# Altium schematic symbol library SWARMUS_LIB.SchLib: 181 symbols (part 2 of 4)
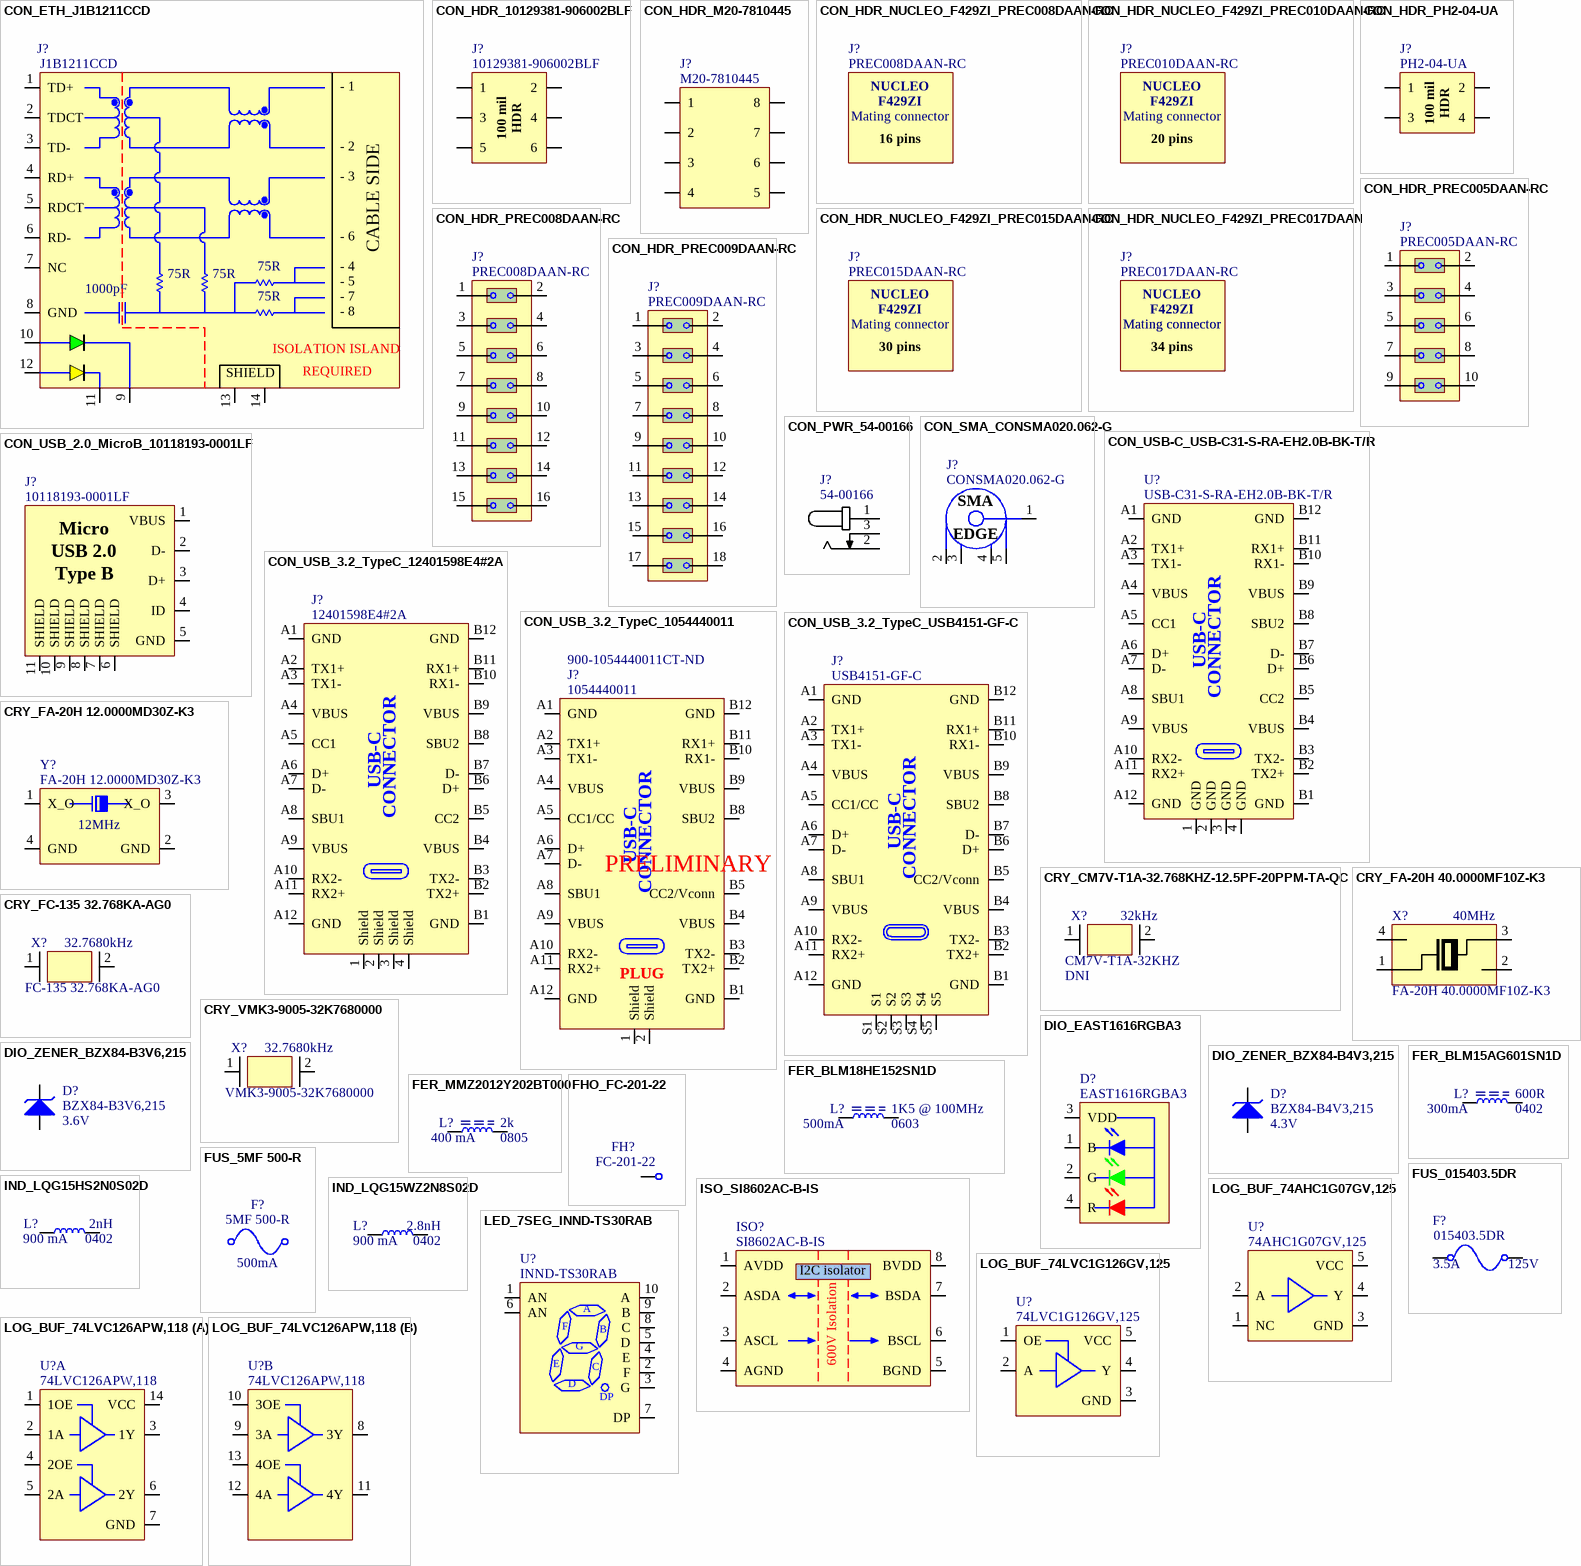
[diagram p7: symbols CON_ETH_J1B1211CCD to LOG_BUF_74LVC126APW,118]

## CON_HDR_NUCLEO_F429ZI_PREC010DAAN-RC
designator J?, comment PREC010DAAN-RC
CON - Header 20 positions 2x10  0.100" - TH; Manufacturer #1: Sullins Connector Solutions; Current Rating: 3A; GRAMS Lib Spec: 2.8; Magnetic Material: Unknown; Polarized: No; Voltage Rating: 1000VAC; Assembly Type: TH; CreatedBy/Date: Louis-Daniel Gaulin / 21-10-2020; HelpURL: https://drawings-pdf.s3.amazonaws.com/11636.pdf; Manufacturer #2: *; Package: TH; Part Number #2: *; Power Max: *; Supplier 1: Digi-Key; Supplier Part Number 1: S2012EC-10-ND; Temperature: -55°C ~ 105°C; Tolerance: *; Value: *; Part Number #1: PREC010DAAN-RC; Cryo: UNKNOWN
footprint CON_HDR_NUCLEO_F429ZI_C010DAAN-RC
text: NUCLEO; F429ZI; Mating connector; 20 pins

## CON_HDR_NUCLEO_F429ZI_PREC015DAAN-RC
designator J?, comment PREC015DAAN-RC
CON - Header 30 positions 2x15  0.100" - TH; Manufacturer #1: Sullins Connector Solutions; Current Rating: 3A; GRAMS Lib Spec: 2.8; Magnetic Material: Unknown; Polarized: No; Voltage Rating: 1000VAC; Assembly Type: TH; CreatedBy/Date: Louis-Daniel Gaulin / 21-10-2020; HelpURL: https://drawings-pdf.s3.amazonaws.com/11636.pdf; Manufacturer #2: *; Package: TH; Part Number #2: *; Power Max: *; Supplier 1: Digi-Key; Supplier Part Number 1: S2012EC-15-ND; Temperature: -55°C ~ 105°C; Tolerance: *; Value: *; Part Number #1: PREC015DAAN-RC; Cryo: UNKNOWN
footprint CON_HDR_NUCLEO_F429ZI_C015DAAN-RC
text: NUCLEO; F429ZI; Mating connector; 30 pins

## CON_HDR_NUCLEO_F429ZI_PREC017DAAN-RC
designator J?, comment PREC017DAAN-RC
CON - Header 34 positions 2x17  0.100" - TH; Manufacturer #1: Sullins Connector Solutions; Current Rating: 3A; GRAMS Lib Spec: 2.8; Magnetic Material: Unknown; Polarized: No; Voltage Rating: 1000VAC; Assembly Type: TH; CreatedBy/Date: Louis-Daniel Gaulin / 21-10-2020; HelpURL: https://drawings-pdf.s3.amazonaws.com/11636.pdf; Manufacturer #2: *; Package: TH; Part Number #2: *; Power Max: *; Supplier 1: Digi-Key; Supplier Part Number 1: S2012EC-17-ND; Temperature: -55°C ~ 105°C; Tolerance: *; Value: *; Part Number #1: PREC017DAAN-RC; Cryo: UNKNOWN
footprint CON_HDR_NUCLEO_F429ZI_C017DAAN-RC
text: NUCLEO; F429ZI; Mating connector; 34 pins

## CON_HDR_PH2-04-UA
designator J?, comment PH2-04-UA
CON - Header 4 positions 2x2  0.100" - TH; Manufacturer #1: Adam Tech; Current Rating: 3A; GRAMS Lib Spec: 2.8; Magnetic Material: Unknown; Polarized: Yes; Voltage Rating: 250 VAC; Assembly Type: TH; CreatedBy/Date: Louis-Daniel Gaulin / 30-07-2020; HelpURL: http://www.adam-tech.com/downloader.php?p=PH2-XX-UA.pdf; Manufacturer #2: *; Package: TH; Part Number #2: *; Power Max: *; Supplier 1: Digi-Key; Supplier Part Number 1: 2057-PH2-04-UA-ND; Temperature: -55°C ~ 105°C; Tolerance: *; Value: *; VerifiedBy: Philippe Arsenault/2020-11-06; Part Number #1: PH2-04-UA; Cryo: UNKNOWN
footprint CON_HDR_PH2-04-UA
pins: 1, 2, 3, 4
text: 100 mil; HDR

## CON_HDR_PREC005DAAN-RC
designator J?, comment PREC005DAAN-RC
CON - Connector Header Through Hole 10 position 0.100" (2.54mm); Manufacturer #1: Sullins Connector Solutions; Value: 5x2; Current Rating: 3A; GRAMS Lib Spec: 2.8; Magnetic Material: Unknown; Polarized: Yes; Tolerance: *; Voltage Rating: *; Power Max: *; HelpURL: https://drawings-pdf.s3.amazonaws.com/11636.pdf; VerifiedBy: Louis-Daniel Gaulin / 08-04-2021; Temperature: -40°C ~ 105°C; Package: TH 2x5; Manufacturer #2: *; Assembly Type: TH; Part Number #2: *; Part Number #1: PREC005DAAN-RC; CreatedBy/Date: Philippe Arsenault/2021-03-27; Supplier 1: Digi-Key; Supplier Part Number 1: S2012EC-05-ND
footprint CON_HDR_PREC005DAAN-RC (18 pin header 100 mils)
pins: 1, 2, 3, 4, 5, 6, 7, 8, 9, 10

## CON_HDR_PREC008DAAN-RC
designator J?, comment PREC008DAAN-RC
CON - Connector Header Through Hole 16 position 0.100" (2.54mm); Manufacturer #1: Sullins Connector Solutions; Value: 8x2; Current Rating: 3A; GRAMS Lib Spec: 2.7; Magnetic Material: Unknown; Polarized: Yes; Tolerance: *; Voltage Rating: *; Power Max: *; HelpURL: https://drawings-pdf.s3.amazonaws.com/11636.pdf; VerifiedBy: Philippe Arsenault/2021-03-25; Temperature: -40°C ~ 105°C; Package: TH 2x8; Manufacturer #2: *; Assembly Type: TH; Part Number #2: *; Part Number #1: PREC008DAAN-RC; CreatedBy/Date: Hubert Dube -  16/03/2021; Supplier 1: Digi-Key; Supplier Part Number 1: S2012EC-08-ND
footprint CON_HDR_PREC008DAAN-RC
pins: 1, 2, 3, 4, 5, 6, 7, 8, 9, 10, 11, 12, 13, 14, 15, 16

## CON_HDR_PREC009DAAN-RC
designator J?, comment PREC009DAAN-RC
CON - Connector Header Through Hole 18 position 0.100" (2.54mm); Manufacturer #1: Sullins Connector Solutions; Value: 9x2; Current Rating: 3A; GRAMS Lib Spec: 2.8; Magnetic Material: Unknown; Polarized: Yes; Tolerance: *; Voltage Rating: *; Power Max: *; HelpURL: https://drawings-pdf.s3.amazonaws.com/11636.pdf; VerifiedBy: Philippe Arsenault/2021-04-21; Temperature: -40°C ~ 105°C; Package: TH 2x9; Manufacturer #2: *; Assembly Type: TH; Part Number #2: *; Part Number #1: PREC009DAAN-RC; CreatedBy/Date: Louis-Daniel Gaulin / 20-04-2021; Supplier 1: Digi-Key; Supplier Part Number 1: S2012EC-09-ND
footprint CON_HDR_PREC009DAAN-RC
pins: 1, 2, 3, 4, 5, 6, 7, 8, 9, 10, 11, 12, 13, 14, 15, 16, 17, 18

## CON_PWR_54-00166
designator J?, comment 54-00166
CON -  PWR JACK 231X5.5MM SOLDER RIGHT ANGLE - TH; Manufacturer #1: Tensility International Corp; Value: 2.10mm ID (0.083"), 5.50mm OD (0.217"); Voltage Rating: 48V; Current Rating: 6A; GRAMS Lib Spec: 2.8; Magnetic Material: Unknown; Polarized: Yes; Tolerance: -; Power Max: *; HelpURL: https://tensility.s3.amazonaws.com/uploads/pdffiles/54-00166.pdf?X-Amz-Expires=600&X-Amz-Date=20210524T010042Z&X-Amz-Algorithm=AWS4-HMAC-SHA256&X-Amz-Credential=AKIAIS2S4WRDQDSWDRZQ%2F20210524%2Fus-west-2%2Fs3%2Faws4_request&X-Amz-SignedHeaders=host&X-Amz-Signature=421a14a98a6cb1d4ecc5694c8922295a9a1148252ef58783507cb2127da09a73; CreatedBy/Date: L-D Gaulin / 23-05-2021; VerifiedBy: Philippe Arsenault/24-05-2021; Temperature: -20°C ~ 70°C; Package: TH; Manufacturer #2: -; Note: -; Assembly Type: TH; Part Number #2: -; Part Number #1: 54-00166; Supplier 1: Digi-Key; Supplier Part Number 1: 839-54-00166-ND; Cryo: UNKNOWN
footprint CON_PWR_PJ-002A
pins: 1, 2, 3

## CON_SMA_CONSMA020.062-G
designator J?, comment CONSMA020.062-G
CON_SMA FML EDGE MNT 0.062" PCB - 5-SMD; Manufacturer #1: Linx Technologies Inc.; GRAMS Lib Spec: 2.8; Magnetic Material: Unknown; Polarized: Yes; Value: 50 ohm; Voltage Rating: 500V; Assembly Type: SMD; CreatedBy/Date: Philippe Arsenault/2021-03-26; Current Rating: -; Part Number #1: CONSMA020.062-G; Part Number #2: TBD; Package: 5-SMD - EDGE; Power Max: -; Tolerance: -; HelpURL: https://linxtechnologies.com/wp/wp-content/uploads/consma020.062-g-ds.pdf; Temperature: -65°C ~ 165°C; Cryo: UNKNOWN; Supplier 1: Digi-Key; Supplier Part Number 1: 343-CONSMA020.062-G-ND
footprint CON_SMA_CONSMA020.062-G (ADGE SMA femal connector)
pins: 1, 2, 3, 4, 5
text: SMA; EDGE

## CON_USB-C_USB-C31-S-RA-EH2.0B-BK-T/R
designator U?, comment USB-C31-S-RA-EH2.0B-BK-T/R
CON_USB-C- USB 3.2 Gen 2 (USB 3.1 Gen 2, Superspeed + (USB 3.1)) Receptacle Connector 24 Position Board Edge, Cutout; Surface Mount; Through Hole, Right Angle; Manufacturer #1: Adam Tech; Value: 24pins; Voltage Rating: 100 VAC RMS; Current Rating: 0.25A, 1.25A, 5A / (I/O, VConn(SBU) 5Afor all Vbus); GRAMS Lib Spec: 2.7; Magnetic Material: Unknown; Polarized: YES; HelpURL: https://adam-tech.com/downloader.php?p=USB-C31-S-RA-EH2.0B-BK-TR.pdf; CreatedBy/Date: Philippe Arsenault/2021-03-30; VerifiedBy: Hubert Dube/02/09/2021; Temperature: -40°C ~ 85°C; Assembly Type: TH and SMT; Part Number #1: USB-C31-S-RA-EH2.0B-BK-T/R; Supplier 1: Digi-Key; Supplier Part Number 1: 2057-USB-C31-S-RA-EH2.0B-BK-T/RCT-ND
footprint CON_USB-C_USB-C31-S-RA-EH2.0B-BK-T/R (USB-C 24 pins)
pins: 1 GND, 2 GND, 3 GND, 4 GND, A1 GND, A2 TX1+, A3 TX1-, A4 VBUS, A5 CC1, A6 D+, A7 D-, A8 SBU1, A9 VBUS, A10 RX2-, A11 RX2+, A12 GND, B1 GND, B2 TX2+, B3 TX2-, B4 VBUS, B5 CC2, B6 D+, B7 D-, B8 SBU2, B9 VBUS, B10 RX1-, B11 RX1+, B12 GND
text: USB-C; CONNECTOR

## CON_USB_2.0_MicroB_10118193-0001LF
designator J?, comment 10118193-0001LF
CON - USB MICRO B RECPT SMT R/A - 4PIN; Manufacturer #1: Amphenol ICC (FCI); Value: USB - Micro B; Voltage Rating: 100VAC; Current Rating: 1.8A/contact; GRAMS Lib Spec: 2.8; Magnetic Material: YES; Cryo: UNKNOWN; Tolerance: *; Power Max: *; HelpURL: https://www.amphenol-icc.com/media/wysiwyg/files/drawing/10118193.pdf?__cf_chl_jschl_tk__=6d5b316db0ca5d2788caa1989b39659b9ea3c0ed-1622505795-0-AaRt1DRyGvMNSBAk-qveCbchLKWQVIAmMiw21edGgytfrVBaCdBHD0R7JP7UqzERtsgLGU8HnLnb9NYw-qq_cWljJZMkMwMtVSFHzRWJlLGbudgxgloryBeAgmSCpzkO2dZRjU3EQamWhvcULwajMV3fUiPho2i-h9AvBD-JqRwzr_N72ynCGWIjWcVHfmsFPyxAQrRMF2zITy4XZMyiz2AisoEE3UXmLsQg-7dODwqIJ2w3QedNraoyztkugiCMWxiG_3uBZp4Hnkmn46Uonr3vdxMQME4_KheuMgFPp_P5DOBRGOjNcuKVWDKaTIxtzSjm-Vi4YySbwfngYOahHgBwxZ2C5SyJl7R0K4LSNt2ojAQ_mNseQmjUzt2NlEQzWcUY5VyszMT4_2moKBiyVJV5rMzbQJeY5pbhSVMFh_uqO5OAY_NpBW4J5fNDt7yaBnEN83RzXmHLdXapuDszcAuGnTT7dhkWobY6IAAHQ-dVnvz40dzhWNjP-wfi7Oy6mg; CreatedBy/Date: Louis-Daniel Gaulin / 31-05-2021; VerifiedBy: Philippe Arsenault/2021-06-07; Temperature: -30°C ~ 80°C; Package: 5-SMD; Manufacturer #2: *; Note: *; Assembly Type: SMD; Part Number #2: *; Part Number #1: 10118193-0001LF; Polarized: YES; Supplier 1: Digi-Key; Supplier Part Number 1: 609-4616-1-ND
footprint CON_USB_10118194-0001LF (CONN USB MICRO B RECPT SMT R/A)
pins: 1 VBUS, 2 D-, 3 D+, 4 ID, 5 GND, 6 SHIELD, 7 SHIELD, 8 SHIELD, 9 SHIELD, 10 SHIELD, 11 SHIELD
text: Micro; USB 2.0; Type B

## CON_USB_3.2_TypeC_12401598E4#2A
designator J?, comment 12401598E4#2A
CON_USB - USB 3.2 Gen 2 (USB 3.1 Gen 2, Superspeed + (USB 3.1)) 24 pos Receptacle - R/A; Manufacturer #1: Amphenol ICC (Commercial Products); Value: USB 3.2 Type C; Current Rating: 5A total; GRAMS Lib Spec: 2.8; Magnetic Material: Unknown; Polarized: Yes; Voltage Rating: -; Power Max: -; HelpURL: https://www.amphenol-icc.com/media/wysiwyg/files/drawing/12401598xxx2a.pdf; CreatedBy/Date: Louis-Daniel Gaulin / 07-04-2021; VerifiedBy: Philippe Arsenault/2021-04-08; Temperature: max 105°C; Package: SMD + TH R/A; Assembly Type: SMD + TH; Part Number #1: 12401598E4#2A; Supplier 1: Digi-Key; Supplier Part Number 1: 12401598E4#2ACT-ND
footprint CON_USB_3.2_TypeC_12401598E4#2A
pins: 1 Shield, 2 Shield, 3 Shield, 4 Shield, A1 GND, A2 TX1+, A3 TX1-, A4 VBUS, A5 CC1, A6 D+, A7 D-, A8 SBU1, A9 VBUS, A10 RX2-, A11 RX2+, A12 GND, B1 GND, B2 TX2+, B3 TX2-, B4 VBUS, B5 CC2, B6 D+, B7 D-, B8 SBU2, B9 VBUS, B10 RX1-, B11 RX1+, B12 GND
text: USB-C; CONNECTOR

## CON_USB_3.2_TypeC_1054440011
designator J?, comment 1054440011  Supplier Part Number 1: 900-1054440011CT-ND
CON_USB -USB-C (USB TYPE-C) USB 3.2 Gen 2 (USB 3.1 Gen 2, Superspeed + (USB 3.1)) Plug Connector 24 Position Board Edge, Straddle Mount; Manufacturer #1: Molex; Value: USB 3.2 Type C; Voltage Rating: 30VAC/DC; Current Rating: 5A total; GRAMS Lib Spec: 2.8; Magnetic Material: Unknown; Polarized: Yes; Power Max: -; HelpURL: https://www.molex.com/pdm_docs/sd/1054440011_sd.pdf; CreatedBy/Date: Philippe Arsenault/2021-08-17; Temperature: -30°C ~ 85°C; Package: SMD; Assembly Type: SMD; Part Number #1: 1054440011; Supplier 1: Digi-Key
footprint CON_USB_3.2_TypeC_1054440011 (USB-C plug, sandwhich 0.8mm board)
pins: 1 Shield, 2 Shield, A1 GND, A2 TX1+, A3 TX1-, A4 VBUS, A5 CC1/CC, A6 D+, A7 D-, A8 SBU1, A9 VBUS, A10 RX2-, A11 RX2+, A12 GND, B1 GND, B2 TX2+, B3 TX2-, B4 VBUS, B5 CC2/Vconn, B8 SBU2, B9 VBUS, B10 RX1-, B11 RX1+, B12 GND
text: USB-C; PRELIMINARY; CONNECTOR; PLUG

## CON_USB_3.2_TypeC_USB4151-GF-C
designator J?, comment USB4151-GF-C
CON - USB-C (USB TYPE-C) USB 3.2 Gen 1 (USB 3.1 Gen 1, Superspeed (USB 3.0)) Plug Connector 24 Position Surface Mount, Through Hole; Manufacturer #1: GCT; Value: USB 3.2 Type C; Voltage Rating: 20VDC; Current Rating: 5A total; GRAMS Lib Spec: 2.8; Note: Vertical; Magnetic Material: Unknown; Polarized: Yes; Power Max: -; HelpURL: https://gct.co/connector/usb4151; CreatedBy/Date: Philippe Arsenault/2021-08-17; VerifiedBy: Hubert Dube/2021-09-02; Temperature: -40°C ~ 85°C; Package: SMD/TH; Assembly Type: SMD/TH; Part Number #1: USB4151-GF-C; Supplier 1: Digi-Key; Supplier Part Number 1: 2073-USB4151-GF-CCT-ND
footprint CON_USB-C_USB4151-GF-C (USB-C plug Vertical)
pins: A1 GND, A2 TX1+, A3 TX1-, A4 VBUS, A5 CC1/CC, A6 D+, A7 D-, A8 SBU1, A9 VBUS, A10 RX2-, A11 RX2+, A12 GND, B1 GND, B2 TX2+, B3 TX2-, B4 VBUS, B5 CC2/Vconn, B6 D+, B7 D-, B8 SBU2, B9 VBUS, B10 RX1-, B11 RX1+, B12 GND, S1, S2, S3, S4, S5
text: USB-C; CONNECTOR

## CRY_CM7V-T1A-32.768KHZ-12.5PF-20PPM-TA-QC
designator X?, comment CM7V-T1A-32KHZ  value 32kHz  Assembly Note: DNI
CRY - 32.768KHZ tol:20ppm 12.5PF - 2-SMD; Manufacturer #1: Micro Crystal AG; Part Number #1: CM7V-T1A-32.768KHZ-12.5PF-20PPM-TA-QC; Magnetic Material: Unknown; Polarized: No; GRAMS Lib Spec: 2.8; Tolerance: ±20ppm; Assembly Type: SMD; Current Rating: *; Manufacturer #2: *; Note: *; Part Number #2: *; Package: 2-SMD, No Lead; Power Max: *; Voltage rating: *; Temperature: -40°C ~ 85°C; HelpURL: https://www.microcrystal.com/fileadmin/Media/Products/32kHz/Datasheet/CM7V-T1A.pdf; CreatedBy/Date: Hubert Dube - 21/07/20; VerifiedBy: Louis-Daniel Gaulin - 09/11/2020; Cryo: UNKNOWN; Supplier 1: Digi-Key; Supplier Part Number 1: 2195-CM7V-T1A-32.768KHZ-12.5PF-20PPM-TA-QCCT-ND
footprint CRY_CM7V-T1A-32.768KHZ-12.5PF-20PPM-TA-QC (CRY - 32.768KHZ tol:20ppm 12.5PF - 2-SMD)
pins: 1 In/Out, 2 Out/In

## CRY_FA-20H 12.0000MD30Z-K3
designator Y?, comment FA-20H 12.0000MD30Z-K3
CRY - 12MHz ±30ppm Crystal 10pF 150 Ohms 4-SMD, No Lead; Manufacturer #1: EPSON; Voltage Rating: 1.8V ~ 3.3V; GRAMS Lib Spec: 2.8; Magnetic Material: Unknown; Polarized: Yes; Value: 12MHz; Tolerance: ±30ppm; Current Rating: *; Power Max: *; HelpURL: https://support.epson.biz/td/api/doc_check.php?dl=brief_FA-20H&lang=en; CreatedBy/Date: Hubert Dube - 13/03/2021; VerifiedBy: Philippe Arsenault - 2021/03/16; Temperature: -40°C ~ 85°C; Package: 4-SMD, No Lead; Manufacturer #2: *; Note: *; Assembly Type: SMD; Part Number #2: *; Part Number #1: FA-20H 12.0000MD30Z-K3; Cryo: UNKNOWN; Supplier 1: Digi-Key; Supplier Part Number 1: SER4113CT-ND
footprint CRY_FA-20H (CRY - FA-20H 4-SMD)
pins: 1 X_O, 2 GND, 3 X_O, 4 GND

## CRY_FA-20H 40.0000MF10Z-K3
designator X?, comment FA-20H 40.0000MF10Z-K3  value 40MHz
CRY - 40MKHZ 10ppm 10PF - 4-SMD; Manufacturer #1: EPSON; Magnetic Material: Unknown; Polarized: No; GRAMS Lib Spec: 2.8; Assembly Type: SMD; Current Rating: *; Manufacturer #2: *; Note: *; Part Number #1: FA-20H 40.0000MF10Z-K3; Part Number #2: *; Package: 4 - SMD, No Lead; Power Max: *; Voltage rating: *; Temperature: -20°C ~ 75°C; HelpURL: https://support.epson.biz/td/api/doc_check.php?dl=brief_FA-20H&lang=en; CreatedBy/Date: Hubert Dube - 21/07/20; Tolerance: ±10ppm; VerifiedBy: Louis-Daniel Gaulin - 09/11/2020; Cryo: UNKNOWN; Supplier 1: Digi-Key; Supplier Part Number 1: SER4045CT-ND
footprint CRY_FA-20H 40.0000MF10Z-K3 (CRY - 40MKHZ 10ppm 10PF - 4-SMD)
pins: 1, 2, 3, 4

## CRY_FC-135 32.768KA-AG0
designator X?, comment FC-135 32.768KA-AG0  value 32.7680kHz
CRY - 32.768KHZ tol:20ppm 7PF - 2-SMD; Manufacturer #1: Seiko Epson Corporation; Magnetic Material: Unknown; Polarized: No; GRAMS Lib Spec: 2.8c; Tolerance: ±20ppm; Assembly Type: SMD; Current Rating: *; Manufacturer #2: *; Note: *; Part Number #1: FC-135 32.768KA-AG0; Part Number #2: *; Package: 2-SMD, No Lead; Power Max: *; Voltage rating: *; Temperature: -40°C ~ 85°C; HelpURL: https://support.epson.biz/td/api/doc_check.php?dl=brief_FC-135&lang=en; CreatedBy/Date: Louis-Daniel Gaulin / 08-04-2021; VerifiedBy: Philippe Arsenault/2021-04-10; Cryo: UNKNOWN; Supplier 1: Digi-Key; Supplier Part Number 1: SER4089CT-ND
footprint CRY_FC-135 32.768KA-AG0 (CRY - 32.768KHZ tol:20ppm 12.5PF - 2-SMD)
pins: 1 In/Out, 2 Out/In

## CRY_VMK3-9005-32K7680000
designator X?, comment VMK3-9005-32K7680000  value 32.7680kHz
CRY - 32.768KHZ tol:20ppm  - 2-SMD; Manufacturer #1: Microchip Technology; Magnetic Material: Unknown; Note: The capacitance is unclear - migthcause problems; Polarized: No; GRAMS Lib Spec: 2.8c; Tolerance: ±20ppm; Assembly Type: SMD; Current Rating: *; Manufacturer #2: *; Part Number #1: VMK3-9005-32K7680000; Part Number #2: *; Package: 2-SMD, No Lead; Power Max: *; Voltage rating: *; Temperature: -40°C ~ 85°C; HelpURL: https://www.vectron.com/products/crystals/VMK3_VMK4.pdf; CreatedBy/Date: Louis-Daniel Gaulin / 08-04-2021; VerifiedBy: Philippe Arsenault/2021-04-15; Cryo: UNKNOWN; Supplier 1: Digi-Key; Supplier Part Number 1: 150-VMK3-9005-32K7680000CT-ND
footprint CRY_VMK3-9005-32K7680000 (CRY - 32.768KHZ tol:20ppm 9PF - 2-SMD)
pins: 1 In/Out, 2 Out/In

## DIO_EAST1616RGBA3
designator D?, comment EAST1616RGBA3
DIO - Red, Green, Blue LED Indication - Discrete 1.95V Red, 2.8V Green, 2.8V Blue 0606 (1616 Metric); Manufacturer #1: Everlight Electronics Co Ltd; Value: 24MHz; Tolerance: ±50ppm; Voltage Rating: 1.8 to 3.3V; Current Rating: 60mA; Power Max: 60mW; GRAMS Lib Spec: 2.8; Magnetic Material: Unknown; Polarized: Yes; HelpURL: https://everlightamericas.com/index.php?controller=attachment&id_attachment=1010; CreatedBy/Date: Hubert Dube - 26/02/2021; VerifiedBy: PA + Hubert Dube - 19/03/2021; Temperature: -40 ~ +85℃; Package: 4-SMD, No Lead; Manufacturer #2: *; Note: *; Assembly Type: SMD; Part Number #2: *; Part Number #1: EAST1616RGBA3; Cryo: UNKNOWN; Supplier 1: Digi-Key; Supplier Part Number 1: 1080-1550-1-ND
footprint DIO_EAST1616RGBA3 (Diode Red/Green/Blue)
pins: 1 B, 2 G, 3 VDD, 4 R

## DIO_ZENER_BZX84-B3V6,215
designator D?, comment BZX84-B3V6,215  value 3.6V
DIO - ZENER 3.6V 250mW - SOT-23; Manufacturer #1: Nexperia USA Inc.; Current Rating: 70mA; GRAMS Lib Spec: 2.8; Magnetic Material: Unknown; Polarized: Yes; Tolerance: 2%; Assembly Type: SMD; CreatedBy/Date: Louis-Daniel Gaulin / 30-07-2020; HelpURL: https://assets.nexperia.com/documents/data-sheet/BZX84_SER.pdf; Manufacturer #2: -; Note: -; Package: SOT-23; Part Number #1: BZX84-B3V6,215; Part Number #2: -; Power Max: 250mW; Temperature: -65°C ~ 150°C; VerifiedBy: Philippe Arsenault/2020-11-06; Voltage Rating: 3.6V; Supplier 1: Digi-Key; Supplier Part Number 1: 1727-6252-1-ND; Cryo: UNKNOWN
footprint DIO_ZENER_BZX84-B3V6,215
pins: 1 A, 2 NC hidden, 3 K

## DIO_ZENER_BZX84-B4V3,215
designator D?, comment BZX84-B4V3,215  value 4.3V
DIO - ZENER 4.3V 250mW - SOT-23; Manufacturer #1: Nexperia USA Inc.; Current Rating: 200mA foward; GRAMS Lib Spec: 2.8c; Magnetic Material: Unknown; Polarized: Yes; Tolerance: 2%; Assembly Type: SMD; CreatedBy/Date: Louis-Daniel Gaulin / 29-03-2021; HelpURL: https://assets.nexperia.com/documents/data-sheet/BZX84_SER.pdf; Manufacturer #2: -; Note: -; Package: SOT-23; Part Number #1: BZX84-B4V3,215; Part Number #2: -; Power Max: 250mW; Temperature: -65°C ~ 150°C; VerifiedBy: Philippe Arsenault/ 2021-04-01; Voltage Rating: 4.3V; Cryo: UNKNOWN; Supplier 1: Digi-Key; Supplier Part Number 1: 1727-1669-1-ND
footprint DIO_ZENER_BZX84-B4V3,215
pins: 1 A, 2 NC hidden, 3 K

## FER_BLM15AG601SN1D
designator L?, comment value 600R  Current Rating: 300mA  Package: 0402  (hidden comment: BLM15AG601SN1D)
FER -  600 OHM@100MHz - 0402; Manufacturer #1: Murata; GRAMS Lib Spec: 2.8; Magnetic Material: YES; Polarized: NO; Cryo: UNKNOWN; Tolerance: *; Voltage Rating: *; Power Max: *; HelpURL: https://www.murata.com/en-us/products/productdata/8796740059166/ENFA0018.pdf; CreatedBy/Date: Philippe Arsenault/2020-07-24; VerifiedBy: Louis-Daniel Gaulin / 2020-07-29; Temperature: -55°C ~ 125°C; Manufacturer #2: *; Note: *; Assembly Type: SMD; Part Number #2: *; Part Number #1: BLM15AG601SN1D; Supplier 1: Digi-Key; Supplier Part Number 1: 490-1006-1-ND
footprint FER_0402 (Ferrite - 0402)
pins: 1, 2

## FER_BLM18HE152SN1D
designator L?, comment value 1K5 @ 100MHz  Current Rating: 500mA  Package: 0603  (hidden comment: BLM18HE152SN1D)
FER - 1.5 kOhms @ 100MHz 1 Signal Line Ferrite Bead 0603 (1608 Metric) 500mA 500mOhm DC; Manufacturer #1: Murata Electronics; GRAMS Lib Spec: 2.8; Magnetic Material: Unknown; Polarized: No; Tolerance: *; Voltage Rating: *; Power Max: *; HelpURL: https://www.murata.com/en-us/products/productdata/8796741599262/ENFA0004.pdf; CreatedBy/Date: Hubert Dube - 16/03/2021; VerifiedBy: Philippe Arsenault - 2021-03-16; Temperature: -55°C ~ 125°C; Assembly Type: SMD; Part Number #2: *; Part Number #1: BLM18HE152SN1D; Cryo: UNKNOWN; Supplier 1: Digi-Key; Supplier Part Number 1: 490-5216-1-ND
footprint FER_0603 (Ferrite - 0603)
pins: 1, 2

## FER_MMZ2012Y202BT000
designator L?, comment value 2k  Current Rating: 400 mA  Package: 0805  (hidden comment: MMZ2012Y202BT000)
FER - 2K OHM @ 100 MHz 400 mA - 0805; Manufacturer #1: TDK Corporation; GRAMS Lib Spec: 2.8; Magnetic Material: Unknown; Polarized: No; Tolerance: *; Voltage Rating: *; Power Max: *; HelpURL: https://product.tdk.com/info/en/catalog/datasheets/beads_commercial_signal_mmz2012_en.pdf; CreatedBy/Date: Hubert Dube - 7/02/2021; VerifiedBy: Philippe Arsenault/ 2021-03-13; Temperature: -55°C ~ 125°C; Assembly Type: SMD; Part Number #2: *; Part Number #1: MMZ2012Y202BT000; Cryo: UNKNOWN; Supplier 1: Digi-Key; Supplier Part Number 1: 445-1561-1-ND
footprint FER_0805 (Footprint not found)
pins: 1, 2

## FHO_FC-201-22
designator FH?, comment FC-201-22
FHO - FUSE CLIP 5mm CARTRIDGE 10A PCB - 2-TH; Manufacturer #1: Bel Fuse Inc.; Value: for 5mm diameter fuses; GRAMS Lib Spec: 2.8; Magnetic Material: UNKNOWN; Polarized: Yes; Tolerance: *; Power Max: *; HelpURL: https://belfuse.com/resources/datasheets/circuitprotection/ds-cp-0672-fuse-clips-series.pdf; CreatedBy/Date: Louis-Daniel Gaulin / 26-02-2021; VerifiedBy: Hubert Dube - 26/02/2021; Temperature: *; Package: 2-TH; Manufacturer #2: *; Note: *; Assembly Type: TH; Part Number #2: *; Part Number #1: FC-201-22; Supplier 1: Digi-Key; Supplier Part Number 1: FC-201-22-ND; Voltage Rating: *; Current Rating: 10A; Cryo: UNKNOWN
footprint FHO_FC-201-22
pins: 1

## FUS_5MF 500-R
designator F?, comment 5MF 500-R  Current Rating: 500mA
FUS - CARTRIDGE GLASS 500mA 250VAC/125VDC - 5X20mm; Manufacturer #1: Bel Fuse Inc.; Value: 500mA, Fast blow; GRAMS Lib Spec: 2.8c; Note: Use with 2x FC-201-22 clip; Magnetic Material: UNKNOWN; Polarized: NO; Rule: UNIONINDEX=0|RULEKIND=ComponentClearance|NETSCOPE=AnyNet|LAYERKIND=SameLayer|NAME=Schematic Component Clearance Constraint|GAP=0mil|COLLISIONCHECKMODE=3|VERTICALGAP=0mil|SHOWDISTANCES=FALSE|UNIT=Imperial; Tolerance: *; Power Max: *; HelpURL: https://belfuse.com/resources/datasheets/circuitprotection/ds-cp-5mf-5mfp-series.pdf; CreatedBy/Date: Louis-Daniel Gaulin; VerifiedBy: Hubert Dube - 26/02/2021; Temperature: -55°C ~ 125°C; Package: 3AB; Manufacturer #2: *; Assembly Type: MANUAL; Part Number #2: *; Part Number #1: 5MF 500-R; Supplier 1: Digi-Key; Supplier Part Number 1: 507-1259-ND; Voltage Rating: 250VAC/125VDC; Cryo: UNKNOWN
footprint FUS_5MF 500-R

## FUS_015403.5DR
designator F?, comment 015403.5DR  Voltage Rating: 125V  Current Rating: 3.5A
FUS - 3.5 A 125 VAC/VDC - 2-SMD; Manufacturer #1: Littelfuse Inc.; Value: 3.5A 125V AC/DC FAST; GRAMS Lib Spec: 2.8c; Magnetic Material: UNKNOWN; Polarized: NO; Tolerance: *; Power Max: *; HelpURL: https://www.littelfuse.com/~/media/electronics/datasheets/fuses/littelfuse_fuse_154_154t_154l_154tl_datasheet.pdf.pdf; CreatedBy/Date: Louis-Daniel Gaulin / 09-04-2021; VerifiedBy: Philippe Arsenault/2021-04-10; Temperature: -55°C ~ 125°C; Package: 2-SMD; Manufacturer #2: *; Note: *; Assembly Type: SMD; Part Number #2: *; Part Number #1: 015403.5DR; Supplier 1: Digi-Key; Supplier Part Number 1: F3151CT-ND; Cryo: UNKNOWN
footprint FUS_0154XXX.DR (FUSE BRD MNT 2SMD)
pins: 1, 2

## IND_LQG15HS2N0S02D
designator L?, comment value 2nH  Current Rating: 900 mA  Package: 0402  (hidden comment: LQG15HS2N0S02D)
IND - 2nH 900mA 100mOhm  - 0402; Manufacturer #1: Murata Electronics; Tolerance: 0.3nH; GRAMS Lib Spec: 2.8; Magnetic Material: Unknown; Polarized: NO; Voltage Rating: *; Power Max: *; HelpURL: https://search.murata.co.jp/Ceramy/image/img/P02/JELF243B-0010.pdf; CreatedBy/Date: Hubert Dube  - 21/07/20; VerifiedBy: Louis-Daniel Gaulin - 09/11/2020; Temperature: -55°C ~ 125°C; Manufacturer #2: *; Assembly Type: SMD; Part Number #2: *; Part Number #1: LQG15HS2N0S02D; Cryo: UNKNOWN; Supplier 1: Digi-Key; Supplier Part Number 1: 490-6569-1-ND
footprint FER_0402 (Ferrite - 0402)
pins: 1, 2

## IND_LQG15WZ2N8S02D
designator L?, comment value 2.8nH  Current Rating: 900 mA  Package: 0402  (hidden comment: LQG15WZ2N8S02D)
IND - 2.8nH 900mA 80mOhm  - 0402; Manufacturer #1: Murata Electronics; Tolerance: 0.3nH; GRAMS Lib Spec: 2.8; Magnetic Material: Unknown; Polarized: NO; Voltage Rating: *; Power Max: *; HelpURL: https://search.murata.co.jp/Ceramy/image/img/P02/JELF243B-9117.pdf; CreatedBy/Date: Hubert Dube  - 3/10/20; VerifiedBy: Louis-Daniel Gaulin - 09/11/2020; Temperature: -55°C ~ 125°C; Manufacturer #2: *; Assembly Type: SMD; Part Number #2: *; Part Number #1: LQG15WZ2N8S02D; Cryo: UNKNOWN; Supplier 1: Digi-Key; Supplier Part Number 1: 490-LQG15WZ2N8S02DCT-ND
footprint FER_0402 (Ferrite - 0402)
pins: 1, 2

## ISO_SI8602AC-B-IS
designator ISO?, comment SI8602AC-B-IS
ISO - DGTL ISO 600V 2CH I2C  - 8-SOIC; Manufacturer #1: Silicon Labs; Polarized: YES; Magnetic Material: UNKNOWN; Value: 600V Isolation; GRAMS Lib Spec: 2.8; Voltage Rating: 3 V ~ 5.5 V; Current Rating: *; Manufacturer #2: *; Power Max: *; Part Number #1: SI8602AC-B-IS; Part Number #2: *; HelpURL: https://www.silabs.com/documents/public/data-sheets/Si860x.pdf; Note: *; Supplier 1: Digi-Key; Supplier Part Number 1: 336-2050-5-ND; Assembly Type: SMD; Package: 8-SOIC; Temperature: -40°C ~ 125°C; CreatedBy/Date: Louis-Daniel Gaulin / 25-02-2021; Tolerance: *; VerifiedBy: Hubert Dube - 26/02/2021; Cryo: UNKNOWN
footprint ISO_SI8602AC-B-IS
pins: 1 AVDD, 2 ASDA, 3 ASCL, 4 AGND, 5 BGND, 6 BSCL, 7 BSDA, 8 BVDD
text: I2C isolator

## LED_7SEG_INND-TS30RAB
designator U?, comment INND-TS30RAB
LED_7SEG  - LED Character and Numeric Red 7-Segment 1 Character Common Anode 2V - 10-TH; Current Rating: 20mA; Note: Operate at 10mA; Voltage rating: 2V (Vf); Polarized: Yes; Magnetic Material: Unknown; GRAMS Lib Spec: 2.8; Manufacturer #1: INND-TS30RAB; Manufacturer #2: *; Power Max: *; Part Number #2: *; HelpURL: http://www.inolux-corp.com/datasheet/Display/Through-Hole-Display/SingleDigit/INND-TS30%20Series_V1.0.pdf; Part Number #1: INND-TS30RAB; Supplier 1: Digi-Key; Supplier Part Number 1: 1830-1146-ND; Value: *; Assembly Type: TH; Temperature: -35°C ~ 85°C; Package: 10-TH; CreatedBy/Date: Louis-Daniel Gaulin / 10-05-2021; VerifiedBy: Philippe Arsenault/10-05-2021; Cryo: UNKNOWN
footprint LED_7SEG_INND-TS30RAB
pins: 1 AN, 2 F, 3 G, 4 E, 5 D, 6 AN, 7 DP, 8 C, 9 B, 10 A

## LOG_BUF_74AHC1G07GV,125
designator U?, comment 74AHC1G07GV,125
LOG_BUF - Buffer non-inverting Open Drain - SC-74A; Manufacturer #1: Nexperia USA Inc.; Voltage Rating: 2V ~ 5.5V; Current Rating: 8mA; GRAMS Lib Spec: 2.8; Magnetic Material: Unknown; Polarized: Yes; Power Max: -; HelpURL: https://assets.nexperia.com/documents/data-sheet/74AHC1G07.pdf; CreatedBy/Date: Louis-Daniel Gaulin / 07-04-2021; VerifiedBy: Philippe Arsenault/2021-04-08; Temperature: -40°C ~ 125°C (TA); Package: SC-74A; Assembly Type: SMD; Part Number #1: 74AHC1G07GV,125; Supplier 1: Digi-Key; Supplier Part Number 1: 1727-6761-1-ND
footprint LOG_BUF_ 74AHC1G07GV,125
pins: 1 NC, 2 A, 3 GND, 4 Y, 5 VCC

## LOG_BUF_74LVC1G126GV,125
designator U?, comment 74LVC1G126GV,125
LOG_BUF - Buffer non-inverting 3-States - SC-74A; Manufacturer #1: Nexperia USA Inc.; Value: BUF 5V; Voltage Rating: 1.65V ~ 5.5V; Current Rating: 50mA; GRAMS Lib Spec: 2.8; Magnetic Material: Unknown; Polarized: Yes; Power Max: -; HelpURL: https://assets.nexperia.com/documents/data-sheet/74LVC1G126.pdf; CreatedBy/Date: Philippe Arsenault/2021-04-08; VerifiedBy: Louis-Daniel Gaulin / 11-04-2021; Temperature: -40°C ~ 125°C (TA); Package: SC-74A; Assembly Type: SMD; Part Number #1: 74LVC1G126GV,125; Supplier 1: Digi-Key; Supplier Part Number 1: 1727-6066-1-ND
footprint LOG_BUF_ 74LVC1G126GV,125
pins: 1 OE, 2 A, 3 GND, 4 Y, 5 VCC

## LOG_BUF_74LVC126APW,118
designator U?, comment 74LVC126APW,118
LOG_BUF - Quad Buffer non-inverting 3-States - 14-TSSOP; Manufacturer #1: Nexperia USA Inc.; Voltage Rating: 1.65V ~ 3.6V; Current Rating: 100mA (supply) - 24mA (output); Power Max: 500mW; GRAMS Lib Spec: 2.8; Magnetic Material: Unknown; Polarized: Yes; HelpURL: https://assets.nexperia.com/documents/data-sheet/74LVC126A.pdf; CreatedBy/Date: Louis-Daniel Gaulin / 11-04-2021; VerifiedBy: Philippe Arsenault/2021-04-14; Temperature: -40°C ~ 125°C (TA); Package: 14-TSSOP; Assembly Type: SMD; Part Number #1: 74LVC126APW,118; Supplier 1: Digi-Key; Supplier Part Number 1: 1727-5979-1-ND
footprint LOG_BUF_74LVC126APW,118
part A pins: 1 1OE, 2 1A, 3 1Y, 4 2OE, 5 2A, 6 2Y, 7 GND, 14 VCC
part B pins: 8 3Y, 9 3A, 10 3OE, 11 4Y, 12 4A, 13 4OE

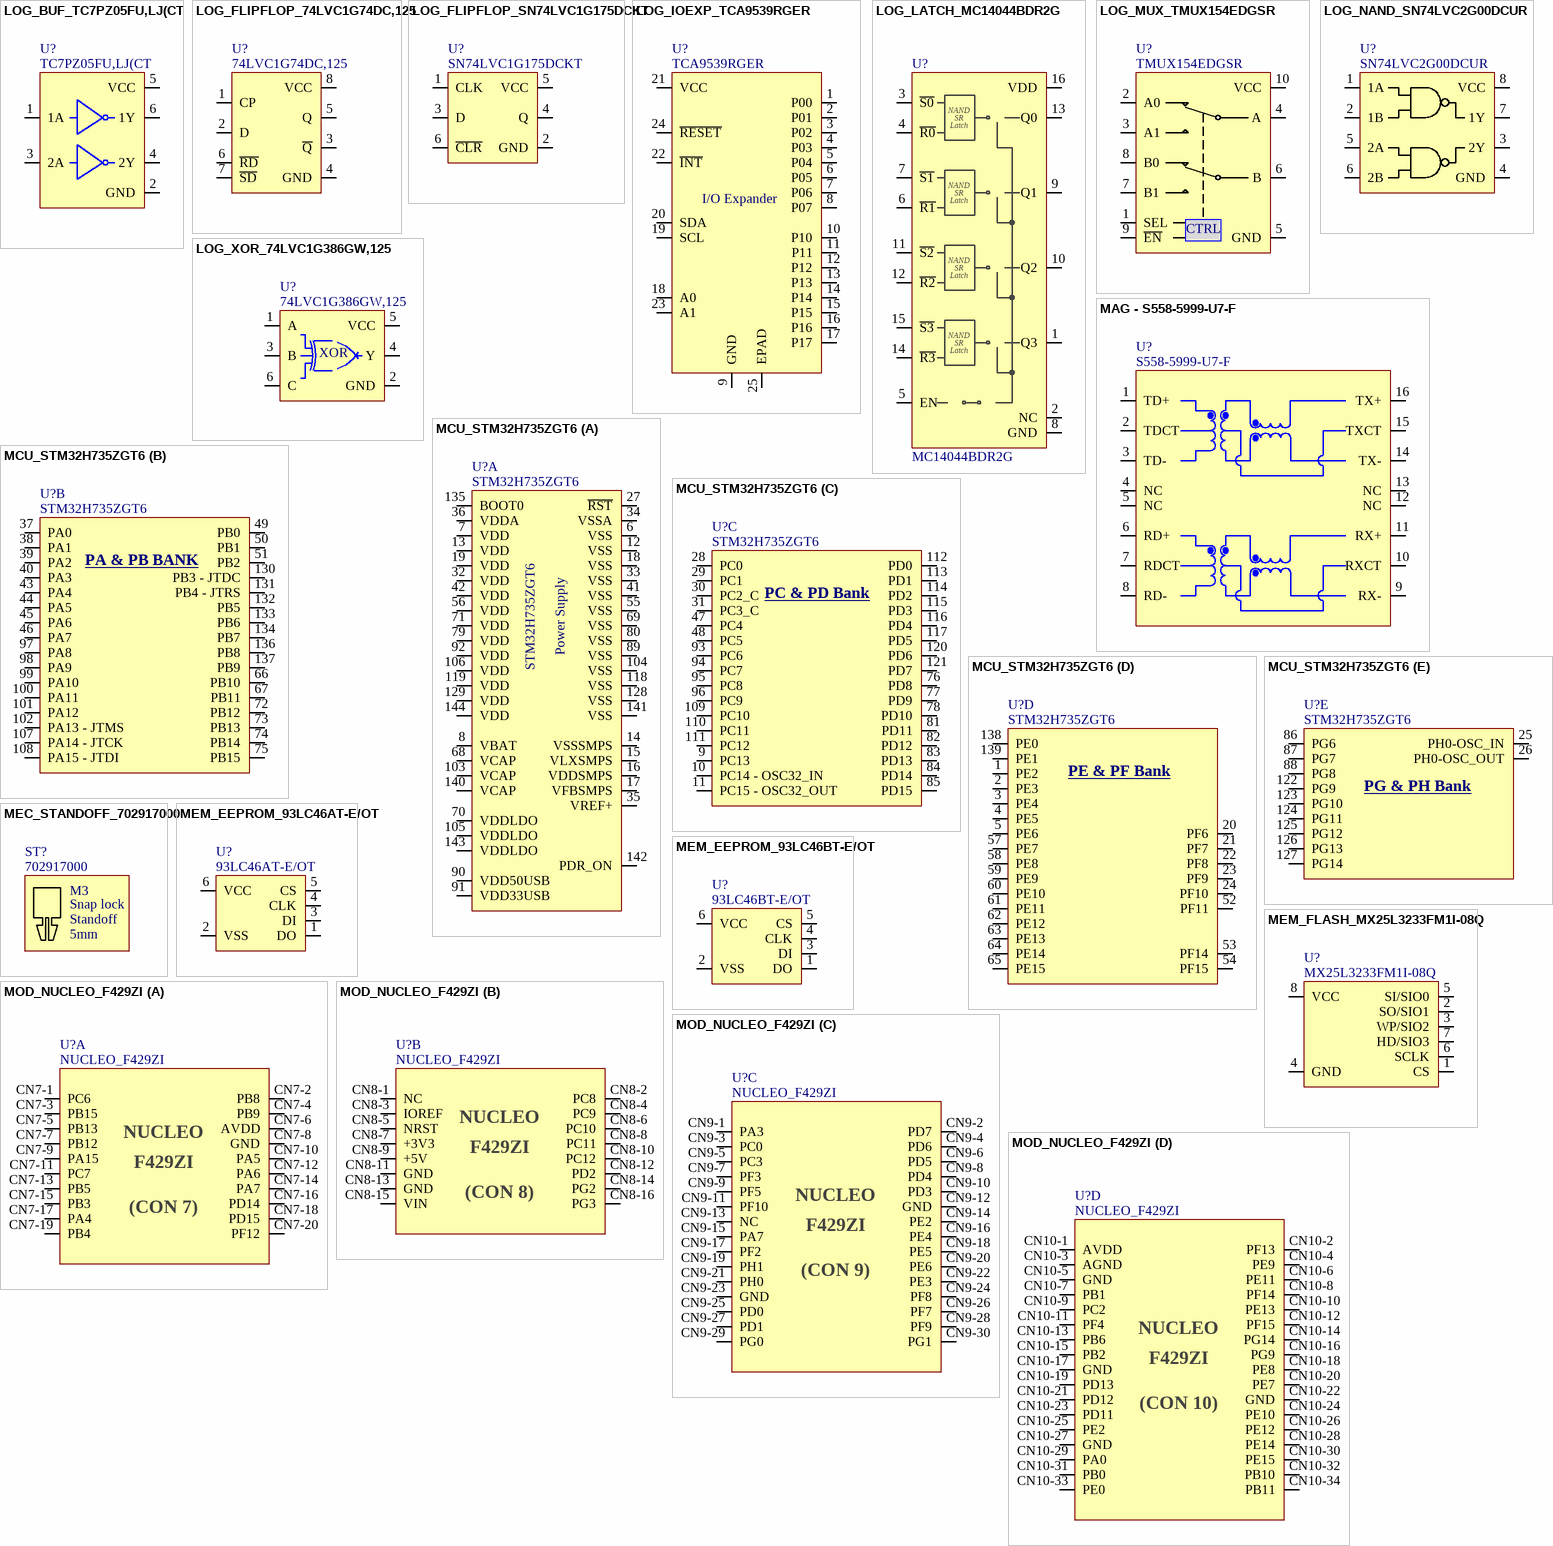
[diagram p3: symbols LOG_BUF_TC7PZ05FU,LJ(CT to MOD_NUCLEO_F429ZI]

## LOG_BUF_TC7PZ05FU,LJ(CT
designator U?, comment TC7PZ05FU,LJ(CT
LOG_BUF - DUAL Buffer inverting Open Drain - SOT-363; Manufacturer #1: Toshiba Semiconductor and Storage; Voltage Rating: 2V ~ 5.5V; Current Rating: 100mA VCC - 50mA output; Power Max: 200mW; GRAMS Lib Spec: 2.8; Magnetic Material: Unknown; Polarized: Yes; HelpURL: https://toshiba.semicon-storage.com/info/docget.jsp?did=30530&prodName=TC7PZ05FU; CreatedBy/Date: Louis-Daniel Gaulin / 14-04-2021; VerifiedBy: Philippe Arsenault/2021-04-14; Temperature: -40°C ~ 125°C (TA); Package: SOT-363; Assembly Type: SMD; Part Number #1: TC7PZ05FU,LJ(CT; Supplier 1: Digi-Key; Supplier Part Number 1: TC7PZ05FULJ(CTCT-ND
footprint LOG_BUF_TC7PZ05FU,LJ(CT (SOT23, 6-Leads, Body 2.00x2.10mm, Pitch 0.65mm, IPC Medium Density)
pins: 1 1A, 2 GND, 3 2A, 4 2Y, 5 VCC, 6 1Y

## LOG_FLIPFLOP_74LVC1G74DC,125
designator U?, comment 74LVC1G74DC,125
LOG_FLIPFLOP - D-Type Flip Flop Bit Positive Edge with asynchronous operation - 8-VSSOP; Manufacturer #1: Nexperia USA Inc.; Voltage Rating: 1.65V ~ 5.5V; Current Rating: 32mA output; Power Max: 300mW; GRAMS Lib Spec: 2.8; Magnetic Material: Unknown; Polarized: Yes; HelpURL: https://assets.nexperia.com/documents/data-sheet/74LVC1G74.pdf; CreatedBy/Date: Philippe Arsenault/2021-04-14; VerifiedBy: Louis-Daniel Gaulin / 16-04-2021; Temperature: -40°C ~ 125°C (TA); Package: VSSOP-8; Assembly Type: SMD; Part Number #1: 74LVC1G74DC,125; Supplier 1: Digi-Key; Supplier Part Number 1: 1727-4029-1-ND
footprint LOG_FLIPFLOP_74LVC1G74DC,125 (VSSOP8)
pins: 1 CP, 2 D, 3 ~{Q}, 4 GND, 5 Q, 6 ~{RD}, 7 ~{SD}, 8 VCC

## LOG_FLIPFLOP_SN74LVC1G175DCKT
designator U?, comment SN74LVC1G175DCKT
LOG_FLIPFLOP - Single D flip-flop with Asynchronous clear - SOT-363; Manufacturer #1: Texas Instruments; Part Number #1: SN74LVC1G175DCKR; Voltage Rating: 1.65V ~ 5.5V; Current Rating: 100mA; GRAMS Lib Spec: 2.8; Magnetic Material: Unknown; Polarized: Yes; Cryo: No; Value: *; Tolerance: *; Power Max: *; HelpURL: https://www.ti.com/lit/ds/symlink/sn74lvc1g175.pdf?ts=1594769483993&ref_url=https%253A%252F%252Fwww.google.com%252F; CreatedBy/Date: Philippe Arsenault/21-07-2020; VerifiedBy: Louis-Daniel Gaulin / 03-10-2020; Temperature: -40°C ~ 125°C; Package: SOT-363; Manufacturer #2: *; Note: *; Assembly Type: SMD; Part Number #2: *; Supplier 1: Digi-Key; Supplier Part Number 1: 296-16998-1-ND
footprint LOG_FLIPFLOP_SN74LVC1G175DCKT (SOT23, 6-Leads, Body 2.00x2.10mm, Pitch 0.65mm, IPC Medium Density)
pins: 1 CLK, 2 GND, 3 D, 4 Q, 5 VCC, 6 ~{CLR}

## LOG_IOEXP_TCA9539RGER
designator U?, comment TCA9539RGER
LOG - 16-Bit I2C/SMBus, I/O Expander - 24-VQFN-EP; Manufacturer #1: Texas Instruments; Voltage rating: 1.65V ~ 5.5V; Polarized: Yes; Magnetic Material: Unknown; GRAMS Lib Spec: 2.8; Current Rating: *; Manufacturer #2: *; Power Max: *; Part Number #2: *; HelpURL: https://www.ti.com/lit/ds/symlink/tca9539.pdf?HQS=dis-dk-null-digikeymode-dsf-pf-null-wwe&ts=1620652560420; Part Number #1: TCA9539RGER; Supplier 1: Digi-Key; Supplier Part Number 1: 296-44209-1-ND; Value: *; Assembly Type: SMD; Temperature: -40°C ~ 85°C; Package: 24-VQFN-EP; CreatedBy/Date: Louis-Daniel Gaulin / 10-05-2021; VerifiedBy: Philippe Arsenault/2021-05-10; Cryo: UNKNOWN
footprint LOG_IOEXP_TCA9539RGER
pins: 1 P00, 2 P01, 3 P02, 4 P03, 5 P04, 6 P05, 7 P06, 8 P07, 9 GND, 10 P10, 11 P11, 12 P12, 13 P13, 14 P14, 15 P15, 16 P16, 17 P17, 18 A0, 19 SCL, 20 SDA, 21 VCC, 22 ~{INT}, 23 A1, 24 ~{RESET}, 25 EPAD
text: I/O Expander

## LOG_LATCH_MC14044BDR2G
designator U?, comment MC14044BDR2G
LOG - Quad S-R Latch w/ Output Enable - 16-SOIC; Manufacturer #1: ON Semiconductor; Voltage Rating: 3V~18V; Current Rating: 8.8mA; GRAMS Lib Spec: 2.8; Magnetic Material: Unknown; Polarized: Yes; Value: *; Tolerance: *; Power Max: *; HelpURL: https://www.onsemi.com/pub/Collateral/MC14043B-D.PDF; CreatedBy/Date: Louis-Daniel Gaulin / 24-02-2021; VerifiedBy: Hubert Dube - 26/02/2021; Temperature: -55°C ~ 125°C; Package: 16-SOIC; Manufacturer #2: *; Assembly Type: SMD; Part Number #2: *; Part Number #1: MC14044BDR2G; Supplier 1: Digi-Key; Supplier Part Number 1: MC14044BDR2GOSCT-ND; Cryo: UNKNOWN
footprint LOG_LATCH_MC14044BDR2G (SOIC, 16-Leads, Body 9.90x3.90mm, Pitch 1.27mm, IPC Medium Density)
pins: 1 Q3, 2 NC, 3 ~{S0}, 4 ~{R0}, 5 EN, 6 ~{R1}, 7 ~{S1}, 8 GND, 9 Q1, 10 Q2, 11 ~{S2}, 12 ~{R2}, 13 Q0, 14 ~{R3}, 15 ~{S3}, 16 VDD
text: NAND; SR; Latch

## LOG_MUX_TMUX154EDGSR
designator U?, comment TMUX154EDGSR
LOG_MUX -  SWITCH SPDT DUAL 2:1 - 10-VSSOP; Manufacturer #1: Texas Instruments; Voltage Rating: 3V ~ 4.3V; Current Rating: 10uA; Power Max: 50uW; GRAMS Lib Spec: 2.8C; Magnetic Material: Unknown; Polarized: YES; Value: -; Tolerance: -; HelpURL: https://www.ti.com/lit/ds/symlink/tmux154e.pdf?HQS=TI-null-null-digikeymode-df-pf-null-wwe&ts=1602037764538; CreatedBy/Date: Louis-Daniel Gaulin / 06-10-2020; VerifiedBy: Philippe Arsenault/2020-11-06; Temperature: -40°C ~ 85°C; Package: 10-VSSOP; Manufacturer #2: -; Note: -; Assembly Type: SMD; Part Number #2: -; Part Number #1: TMUX154EDGSR; Supplier 1: Digi-Key; Supplier Part Number 1: 296-48347-1-ND
footprint LOG_MUX_TMUX154EDGSR (TSSOP, 10-Leads, Body 3.00x3.00mm, Pitch 0.50mm, IPC Medium Density)
pins: 1 SEL, 2 A0, 3 A1, 4 A, 5 GND, 6 B, 7 B1, 8 B0, 9 ~{EN}, 10 VCC
text: CTRL

## LOG_NAND_SN74LVC2G00DCUR
designator U?, comment SN74LVC2G00DCUR
LOG_NAND - GATE NAND 2CH 2-INP - 8-VSSOP; Manufacturer #1: Texas Instruments; Voltage Rating: 1.65V ~ 5.5V; Current Rating: +-100mA; GRAMS Lib Spec: 2.8; Magnetic Material: Unknown; Polarized: Yes; Cryo: No; Value: *; Tolerance: *; Power Max: *; HelpURL: https://www.ti.com/lit/ds/symlink/sn74lvc2g00.pdf?HQS=TI-null-null-alldatasheets-df-pf-SEP-wwe; CreatedBy/Date: Philippe Arsenault/21-07-2020; VerifiedBy: Louis-Daniel Gaulin / 23-07-2020; Temperature: -40°C ~ 125°C; Package: 8-VSSOP; Manufacturer #2: *; Note: *; Assembly Type: SMD; Part Number #2: *; Part Number #1: SN74LVC2G00DCUR; Supplier Part Number 1: 296-13258-1-ND; Supplier 1: Digi-key
footprint LOG_NAND_SN74LVC2G00DCUR (SN74LVC2G00)
pins: 1 1A, 2 1B, 3 2Y, 4 GND, 5 2A, 6 2B, 7 1Y, 8 VCC

## LOG_XOR_74LVC1G386GW,125
designator U?, comment 74LVC1G386GW,125
LOG -  XOR (Exclusive OR) IC 1 Channel 3 inputs- 6-TSSOP; Manufacturer #1: Nexperia USA Inc.; Value: XOR Gate 5V 3 in; Voltage Rating: 1.65V ~ 5.5V; Current Rating: 100mA (supply) , 50mA (out); Power Max: 250mW; GRAMS Lib Spec: 2.8; Magnetic Material: Unknown; Polarized: Yes; HelpURL: https://assets.nexperia.com/documents/data-sheet/74LVC1G386.pdf; CreatedBy/Date: Philippe Arsenault/2021-04-10; VerifiedBy: Louis-Daniel Gaulin / 14-04-2021; Temperature: -40°C ~ 125°C (TA); Package: 6-TSSOP; Assembly Type: SMD; Part Number #1: 74LVC1G386GW,125; Supplier 1: Digi-Key; Supplier Part Number 1: 1727-6982-1-ND
footprint LOG_XOR_74LVC1G386GW,125 (6-TTSOP)
pins: 1 A, 2 GND, 3 B, 4 Y, 5 VCC, 6 C
text: XOR

## MAG - S558-5999-U7-F
designator U?, comment S558-5999-U7-F
MAG - 350µH LAN 10/100 Base-T Pulse Transformer 1CT:1CT Transmitter, 1CT:1CT Receiver Surface Mount; Manufacturer #1: Bel Fuse Inc.; Value: 350uH/30pF; GRAMS Lib Spec: 2.7; Note: No load; Magnetic Material: Unknown; Polarized: Yes; Tolerance: *; Voltage Rating: *; Current Rating: *; Power Max: *; HelpURL: https://www.belfuse.com/resources/drawings/magneticsolutions/dr-mag-s558-5999-u7-f.pdf; VerifiedBy: Philippe Arsenault/2021-02-08; Temperature: -40°C ~ 85°C; Package: *; Manufacturer #2: *; Assembly Type: SMD; Part Number #2: *; Part Number #1: S558-5999-U7-F; CreatedBy/Date: Hubert Dube -  28/01/2021; Supplier 1: Digi-Key; Supplier Part Number 1: 507-1467-1-ND
footprint MAG - S558-5999-U7-F
pins: 1 TD+, 2 TDCT, 3 TD-, 4 NC, 5 NC, 6 RD+, 7 RDCT, 8 RD-, 9 RX-, 10 RXCT, 11 RX+, 12 NC, 13 NC, 14 TX-, 15 TXCT, 16 TX+

## MCU_STM32H735ZGT6
designator U?, comment STM32H735ZGT6
ARM® Cortex®-M7 series Microcontroller IC 32-Bit 550MHz 1MB (1M x 8) FLASH 564K RAM - 144-LQFP (20x20); Manufacturer #1: STMicroelectronics; Value: 550MHz MCU; Voltage Rating: 1.62V ~ 3.6V; Current Rating: 620mA; Power Max: 2.2W; GRAMS Lib Spec: 2.8; Magnetic Material: Unknown; Polarized: Yes; HelpURL: https://www.st.com/resource/en/datasheet/stm32h735ag.pdf; CreatedBy/Date: Philippe Arsenault/2021-04-08; VerifiedBy: Louis-Daniel Gaulin / 08-04-2021; Temperature: -40°C ~ 85°C (TA); Package: 144-LQFP (20x20); Assembly Type: SMD; Part Number #1: STM32H735ZGT6; Supplier 1: Digi-Key; Supplier Part Number 1: 497-STM32H735ZGT6-ND
footprint MCU_STM32H735ZGT6 (TSQFP, 144-Leads, Body 20,00x20,00mm)
part A pins: 6 VSS, 7 VDD, 8 VBAT, 12 VSS, 13 VDD, 14 VSSSMPS, 15 VLXSMPS, 16 VDDSMPS, 17 VFBSMPS, 18 VSS, 19 VDD, 27 ~{RST}, 32 VDD, 33 VSS, 34 VSSA, 35 VREF+, 36 VDDA, 41 VSS, 42 VDD, 55 VSS, 56 VDD, 68 VCAP, 69 VSS, 70 VDDLDO, 71 VDD, 79 VDD, 80 VSS, 89 VSS, 90 VDD50USB, 91 VDD33USB, 92 VDD, 103 VCAP, 104 VSS, 105 VDDLDO, 106 VDD, 118 VSS, 119 VDD, 128 VSS, 129 VDD, 135 BOOT0, 140 VCAP, 141 VSS, 142 PDR_ON, 143 VDDLDO, 144 VDD
part B pins: 37 PA0, 38 PA1, 39 PA2, 40 PA3, 43 PA4, 44 PA5, 45 PA6, 46 PA7, 49 PB0, 50 PB1, 51 PB2, 66 PB10, 67 PB11, 72 PB12, 73 PB13, 74 PB14, 75 PB15, 97 PA8, 98 PA9, 99 PA10, 100 PA11, 101 PA12, 102 PA13 - JTMS, 107 PA14 - JTCK, 108 PA15 - JTDI, 130 PB3 - JTDC, 131 PB4 - JTRS, 132 PB5, 133 PB6, 134 PB7, 136 PB8, 137 PB9
part C pins: 9 PC13, 10 PC14 - OSC32_IN, 11 PC15 - OSC32_OUT, 28 PC0, 29 PC1, 30 PC2_C, 31 PC3_C, 47 PC4, 48 PC5, 76 PD8, 77 PD9, 78 PD10, 81 PD11, 82 PD12, 83 PD13, 84 PD14, 85 PD15, 93 PC6, 94 PC7, 95 PC8, 96 PC9, 109 PC10, 110 PC11, 111 PC12, 112 PD0, 113 PD1, 114 PD2, 115 PD3, 116 PD4, 117 PD5, 120 PD6, 121 PD7
part D pins: 1 PE2, 2 PE3, 3 PE4, 4 PE5, 5 PE6, 20 PF6, 21 PF7, 22 PF8, 23 PF9, 24 PF10, 52 PF11, 53 PF14, 54 PF15, 57 PE7, 58 PE8, 59 PE9, 60 PE10, 61 PE11, 62 PE12, 63 PE13, 64 PE14, 65 PE15, 138 PE0, 139 PE1
part E pins: 25 PH0-OSC_IN, 26 PH0-OSC_OUT, 86 PG6, 87 PG7, 88 PG8, 122 PG9, 123 PG10, 124 PG11, 125 PG12, 126 PG13, 127 PG14
part A text: Power Supply
part B text: PA & PB BANK
part C text: PC & PD Bank
part D text: PE & PF Bank
part E text: PG & PH Bank

## MEC_STANDOFF_702917000
designator ST?, comment 702917000
MEC_STANDOFF - Board support snap lock 5mm; Manufacturer #1: Würth Elektronik; Value: M3; GRAMS Lib Spec: 2.8; HelpURL: https://www.we-online.de/katalog/datasheet/70291xxxx.pdf; CreatedBy/Date: Louis-Daniel Gaulin / 08-04-2021; VerifiedBy: Philippe Arsenault/2021-04-14; Package: TH 5mm length; Assembly Type: SnapLock; Part Number #1: 702917000; Supplier 1: Digi-Key; Supplier Part Number 1: 732-9626-ND
text: Snap lock; Standoff; 5mm

## MEM_EEPROM_93LC46AT-E/OT
designator U?, comment 93LC46AT-E/OT
EEPROM Memory IC 1Kb (128 x 8) SPI 2MHz  SOT-23-6; Manufacturer #1: Microchip Technology; Part Number #1: 93LC46AT-E/OTCT-ND; Voltage Rating: 2.5V ~ 5.5V; GRAMS Lib Spec: 2.7; Magnetic Material: Unknown; Polarized: Yes; Value: 1Kb; Tolerance: *; Current Rating: *; Power Max: *; HelpURL: https://ww1.microchip.com/downloads/en/DeviceDoc/20001749K.pdf; VerifiedBy: Philippe Arsenault - 17/03/2021 + HD 19/03/2021; Temperature: -40°C ~ 125°C; Package: SOT-23-6; Manufacturer #2: *; Assembly Type: SMD; Part Number #2: *; CreatedBy/Date: Hubert Dube -  13/03/2021; Supplier 1: Digi-Key; Supplier Part Number 1: 93LC46AT-E/OTCT-ND
footprint MEM_EEPROM_93LC46AT-E/OT (SOT23-6 for EEPROM)
pins: 1 DO, 2 VSS, 3 DI, 4 CLK, 5 CS, 6 VCC

## MEM_EEPROM_93LC46BT-E/OT
designator U?, comment 93LC46BT-E/OT
EEPROM Memory IC 1Kb (128 x 8) SPI 2MHz  SOT-23-6; Manufacturer #1: Microchip Technology; Voltage Rating: 2.5V ~ 5.5V; GRAMS Lib Spec: 2.7; Magnetic Material: Unknown; Polarized: Yes; Value: 1Kb; Tolerance: *; Current Rating: *; Power Max: *; HelpURL: https://ww1.microchip.com/downloads/en/DeviceDoc/20001749K.pdf; VerifiedBy: Philippe Arsenault - 17/03/2021 + HD 19/03/2021; Temperature: -40°C ~ 125°C; Package: SOT-23-6; Manufacturer #2: *; Assembly Type: SMD; Part Number #2: *; Part Number #1: 93LC46BT-E/OT; CreatedBy/Date: Hubert Dube -  13/03/2021; Supplier 1: Digi-Key; Supplier Part Number 1: 93LC46BT-E/OTCT-ND
footprint MEM_EEPROM_93LC46BT-E/OT (SOT23-6 for EEPROM)
pins: 1 DO, 2 VSS, 3 DI, 4 CLK, 5 CS, 6 VCC

## MEM_FLASH_MX25L3233FM1I-08Q
designator U?, comment MX25L3233FM1I-08Q
MEM - EFLASH 32Mb SPI 133MHZ - 8-SOIC; Manufacturer #1: Macronix; Value: 32Mb (8M x 4); Voltage Rating: 2.65V ~ 3.6V; GRAMS Lib Spec: 2.8; Magnetic Material: UNKNOWN; Polarized: YES; Tolerance: *; Current Rating: *; Power Max: *; HelpURL: https://www.macronix.com/Lists/Datasheet/Attachments/7426/MX25L3233F,%203V,%2032Mb,%20v1.6.pdf; CreatedBy/Date: Hubert Dube - 22/07/01; Temperature: -40°C ~ 85°C; Package: 8-WSON; Manufacturer #2: *; Note: *; Assembly Type: SMD; Part Number #2: *; Part Number #1: MX25L3233FM1I-08Q; Cryo: UNKNOWN; Supplier 1: Digi-Key; Supplier Part Number 1: 1092-1221-ND
footprint MEM_FLASH_MX25L3233FM1I-08Q (SOIC, 8-Leads, Body 4,90x3,90mm, Pitch 1,27mm, IPC Medium Density)
pins: 1 CS, 2 SO/SIO1, 3 WP/SIO2, 4 GND, 5 SI/SIO0, 6 SCLK, 7 HD/SIO3, 8 VCC

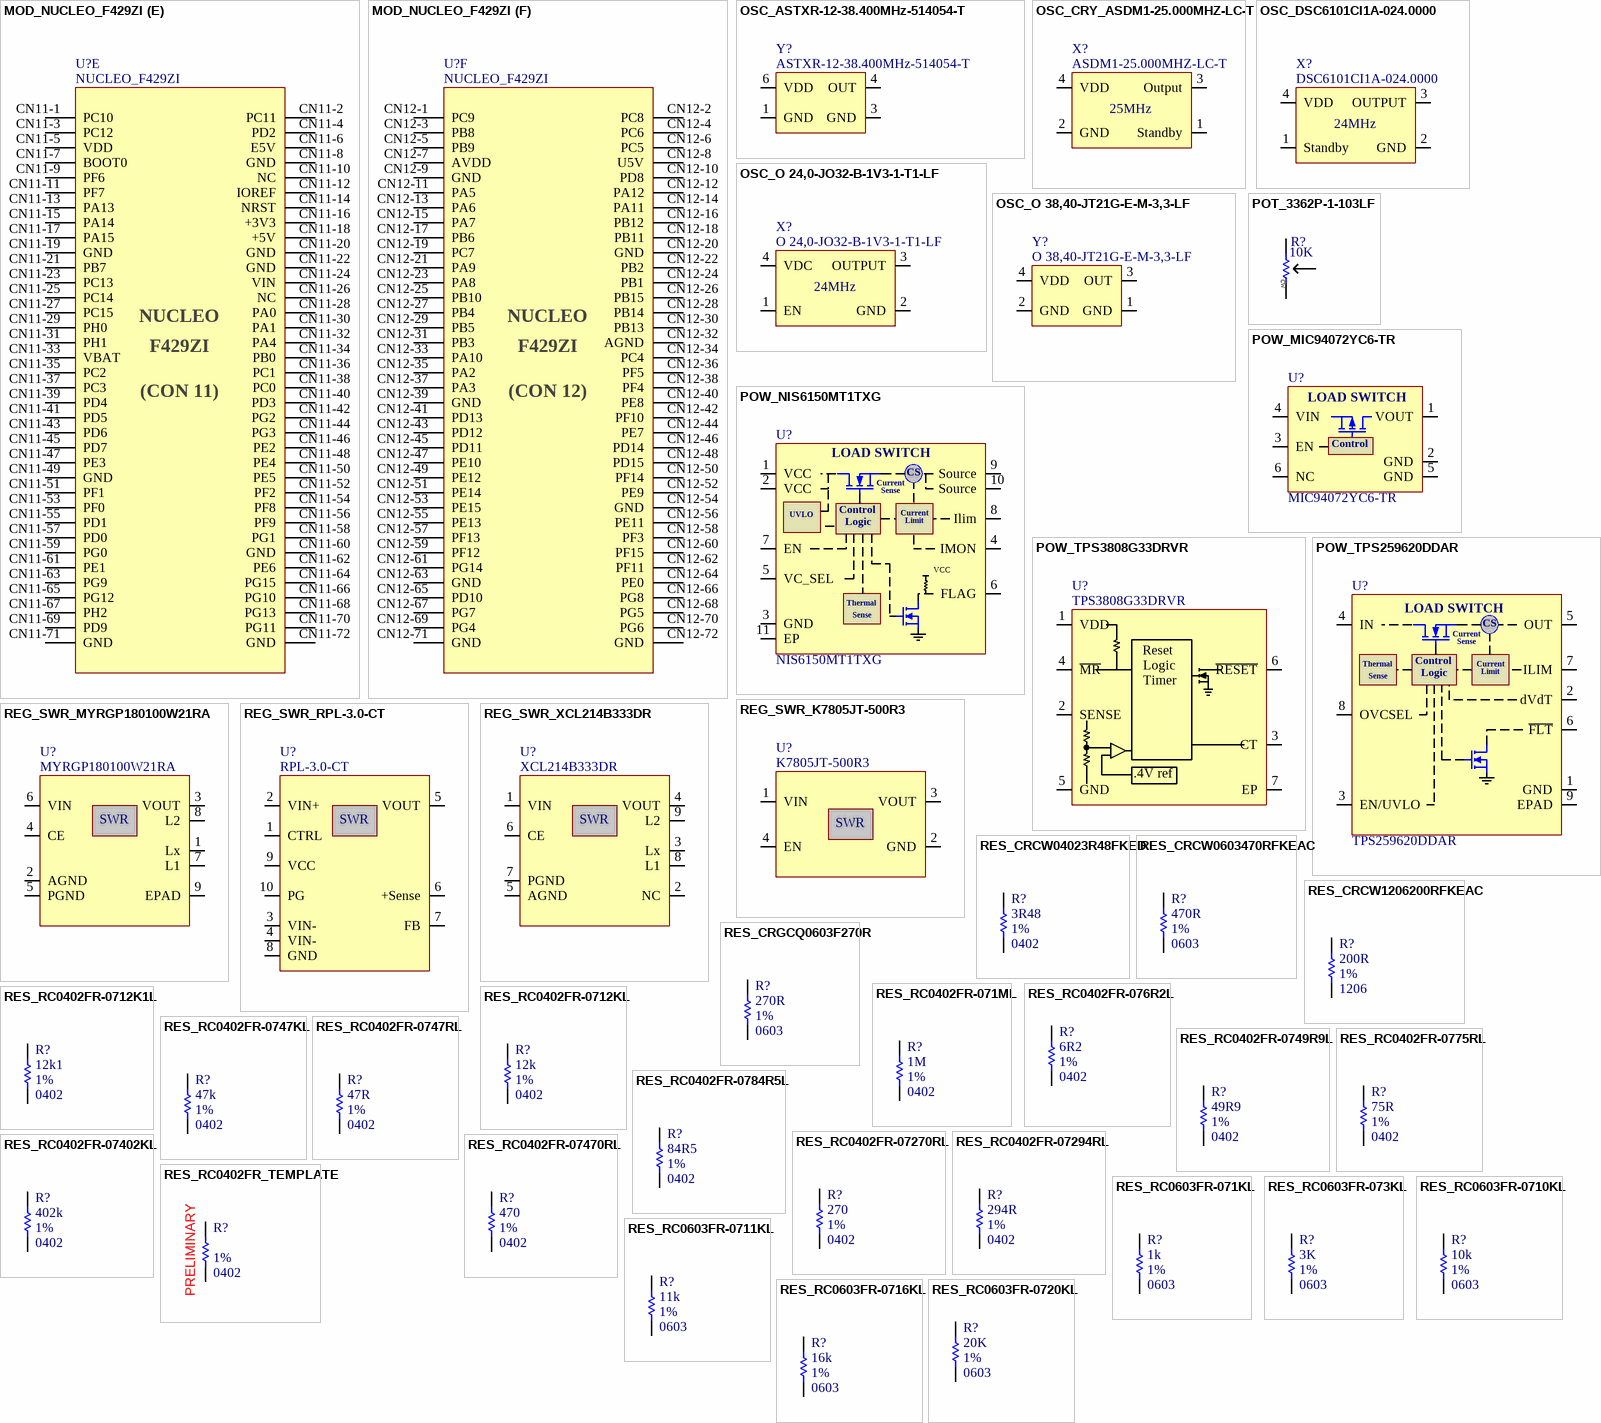
[diagram p4: symbols MOD_NUCLEO_F429ZI to RES_RC0603FR-0720KL]

## MOD_NUCLEO_F429ZI
designator U?, comment NUCLEO_F429ZI
MOD - F429ZI MCU Nucleo development board - MOD; Manufacturer #1: STMicroelectronics; Part Number #1: NUCLEO-F429ZI; Voltage Rating: 3V3 ~ 12V; Current Rating: 800mA; Power Max: 9.6W; GRAMS Lib Spec: 2.8c; Magnetic Material: Unknown; Polarized: Yes; Value: -; Tolerance: -; HelpURL: https://www.st.com/resource/en/user_manual/dm00244518-stm32-nucleo144-boards-mb1137-stmicroelectronics.pdf; CreatedBy/Date: Louis-Daniel Gaulin; Temperature: *; Package: *; Manufacturer #2: *; Note: *; Assembly Type: TH; Part Number #2: -; Supplier 1: Digi-Key; Supplier Part Number 1: 497-16280-ND; Parameter 1: -; Cryo: UNKNOWN
footprint MOD_NUCLEO-F429ZI
part A pins: CN7-1 PC6, CN7-2 PB8, CN7-3 PB15, CN7-4 PB9, CN7-5 PB13, CN7-6 AVDD, CN7-7 PB12, CN7-8 GND, CN7-9 PA15, CN7-10 PA5, CN7-11 PC7, CN7-12 PA6, CN7-13 PB5, CN7-14 PA7, CN7-15 PB3, CN7-16 PD14, CN7-17 PA4, CN7-18 PD15, CN7-19 PB4, CN7-20 PF12
part B pins: CN8-1 NC, CN8-2 PC8, CN8-3 IOREF, CN8-4 PC9, CN8-5 NRST, CN8-6 PC10, CN8-7 +3V3, CN8-8 PC11, CN8-9 +5V, CN8-10 PC12, CN8-11 GND, CN8-12 PD2, CN8-13 GND, CN8-14 PG2, CN8-15 VIN, CN8-16 PG3
part C pins: CN9-1 PA3, CN9-2 PD7, CN9-3 PC0, CN9-4 PD6, CN9-5 PC3, CN9-6 PD5, CN9-7 PF3, CN9-8 PD4, CN9-9 PF5, CN9-10 PD3, CN9-11 PF10, CN9-12 GND, CN9-13 NC, CN9-14 PE2, CN9-15 PA7, CN9-16 PE4, CN9-17 PF2, CN9-18 PE5, CN9-19 PH1, CN9-20 PE6, CN9-21 PH0, CN9-22 PE3, CN9-23 GND, CN9-24 PF8, CN9-25 PD0, CN9-26 PF7, CN9-27 PD1, CN9-28 PF9, CN9-29 PG0, CN9-30 PG1
part D pins: CN10-1 AVDD, CN10-2 PF13, CN10-3 AGND, CN10-4 PE9, CN10-5 GND, CN10-6 PE11, CN10-7 PB1, CN10-8 PF14, CN10-9 PC2, CN10-10 PE13, CN10-11 PF4, CN10-12 PF15, CN10-13 PB6, CN10-14 PG14, CN10-15 PB2, CN10-16 PG9, CN10-17 GND, CN10-18 PE8, CN10-19 PD13, CN10-20 PE7, CN10-21 PD12, CN10-22 GND, CN10-23 PD11, CN10-24 PE10, CN10-25 PE2, CN10-26 PE12, CN10-27 GND, CN10-28 PE14, CN10-29 PA0, CN10-30 PE15, CN10-31 PB0, CN10-32 PB10, CN10-33 PE0, CN10-34 PB11
part E pins: CN11-1 PC10, CN11-2 PC11, CN11-3 PC12, CN11-4 PD2, CN11-5 VDD, CN11-6 E5V, CN11-7 BOOT0, CN11-8 GND, CN11-9 PF6, CN11-10 NC, CN11-11 PF7, CN11-12 IOREF, CN11-13 PA13, CN11-14 NRST, CN11-15 PA14, CN11-16 +3V3, CN11-17 PA15, CN11-18 +5V, CN11-19 GND, CN11-20 GND, CN11-21 PB7, CN11-22 GND, CN11-23 PC13, CN11-24 VIN, CN11-25 PC14, CN11-26 NC, CN11-27 PC15, CN11-28 PA0, CN11-29 PH0, CN11-30 PA1, CN11-31 PH1, CN11-32 PA4, CN11-33 VBAT, CN11-34 PB0, CN11-35 PC2, CN11-36 PC1, CN11-37 PC3, CN11-38 PC0, CN11-39 PD4, CN11-40 PD3, CN11-41 PD5, CN11-42 PG2, CN11-43 PD6, CN11-44 PG3, CN11-45 PD7, CN11-46 PE2, CN11-47 PE3, CN11-48 PE4, CN11-49 GND, CN11-50 PE5, CN11-51 PF1, CN11-52 PF2, CN11-53 PF0, CN11-54 PF8, CN11-55 PD1, CN11-56 PF9, CN11-57 PD0, CN11-58 PG1, CN11-59 PG0, CN11-60 GND, CN11-61 PE1, CN11-62 PE6, CN11-63 PG9, CN11-64 PG15, CN11-65 PG12, CN11-66 PG10, CN11-67 PH2, CN11-68 PG13, CN11-69 PD9, CN11-70 PG11, CN11-71 GND, CN11-72 GND
part F pins: CN12-1 PC9, CN12-2 PC8, CN12-3 PB8, CN12-4 PC6, CN12-5 PB9, CN12-6 PC5, CN12-7 AVDD, CN12-8 U5V, CN12-9 GND, CN12-10 PD8, CN12-11 PA5, CN12-12 PA12, CN12-13 PA6, CN12-14 PA11, CN12-15 PA7, CN12-16 PB12, CN12-17 PB6, CN12-18 PB11, CN12-19 PC7, CN12-20 GND, CN12-21 PA9, CN12-22 PB2, CN12-23 PA8, CN12-24 PB1, CN12-25 PB10, CN12-26 PB15, CN12-27 PB4, CN12-28 PB14, CN12-29 PB5, CN12-30 PB13, CN12-31 PB3, CN12-32 AGND, CN12-33 PA10, CN12-34 PC4, CN12-35 PA2, CN12-36 PF5, CN12-37 PA3, CN12-38 PF4, CN12-39 GND, CN12-40 PE8, CN12-41 PD13, CN12-42 PF10, CN12-43 PD12, CN12-44 PE7, CN12-45 PD11, CN12-46 PD14, CN12-47 PE10, CN12-48 PD15, CN12-49 PE12, CN12-50 PF14, CN12-51 PE14, CN12-52 PE9, CN12-53 PE15, CN12-54 GND, CN12-55 PE13, CN12-56 PE11, CN12-57 PF13, CN12-58 PF3, CN12-59 PF12, CN12-60 PF15, CN12-61 PG14, CN12-62 PF11, CN12-63 GND, CN12-64 PE0, CN12-65 PD10, CN12-66 PG8, CN12-67 PG7, CN12-68 PG5, CN12-69 PG4, CN12-70 PG6, CN12-71 GND, CN12-72 GND
part A text: NUCLEO; F429ZI; (CON 7)
part B text: NUCLEO; F429ZI; (CON 8)
part C text: NUCLEO; F429ZI; (CON 9)
part D text: NUCLEO; F429ZI; (CON 10)
part E text: NUCLEO; F429ZI; (CON 11)
part F text: NUCLEO; F429ZI; (CON 12)

## OSC_ASTXR-12-38.400MHz-514054-T
designator Y?, comment ASTXR-12-38.400MHz-514054-T
OSC - XTAL - ASTXR-12-38.400MHz-514054-T - 38.4MHz TXCO - Clipped sine - 3V3 +-0.5ppm UWB application; Manufacturer #1: Abracon LLC; Voltage Rating: 3.3V; Current Rating: 2mA; GRAMS Lib Spec: 2.8; Magnetic Material: Unknown; Polarized: Yes; Cryo: No; Value: 38.4MHz; Tolerance: *; Power Max: *; HelpURL: https://4donline.ihs.com/images/VipMasterIC/IC/ABRC/ABRC-S-A0001399357/ABRC-S-A0001399357-1.pdf?hkey=52A5661711E402568146F3353EA87419; CreatedBy/Date: Philippe Arsenault/18-07-2020; VerifiedBy: Louis-Daniel Gaulin / 03-10-2020; Temperature: -40°C ~ 85°C; Package: 6-SMD; Manufacturer #2: Rakon; Note: *; Assembly Type: SMT; Part Number #2: *; Part Number #1: ASTXR-12-38.400MHz-514054-T; Supplier 1: Digi-Key; Supplier Part Number 1: 535-13192-1-ND
footprint OSC_ASTXR-12-38.400MHZ-514054-T
pins: 1 GND, 3 GND, 4 OUT, 6 VDD

## OSC_CRY_ASDM1-25.000MHZ-LC-T
designator X?, comment ASDM1-25.000MHZ-LC-T
OSC_CRY - 25MHz +-50ppm LVCMOS Crystal; Manufacturer #1: Abracon LLC; Voltage Rating: 3.0 ~ 3.6V; Current Rating: 15mA; Power Max: 50mW; GRAMS Lib Spec: 2.8; Magnetic Material: Unknown; Polarized: YES; Value: 25.000MHz; HelpURL: https://abracon.com/Oscillators/ASDM.pdf; CreatedBy/Date: Philippe Arsenault/2021-04-07; VerifiedBy: Louis-Daniel Gaulin / 08-04-2021; Temperature: -40°C ~ 85°C; Package: 4-SMD; Assembly Type: SMD; Part Number #1: ASDM1-25.000MHZ-LC-T; Supplier 1: Digi-Key; Supplier Part Number 1: 535-9792-1-ND
footprint OSC_CRY_ASDM1-25.000MHZ-LC-T (Footprint not found)
pins: 1 Standby, 2 GND, 3 Output, 4 VDD
text: 25MHz

## OSC_DSC6101CI1A-024.0000
designator X?, comment DSC6101CI1A-024.0000
OSC - 24MHz XO (Standard) CMOS Oscillator 1.8V ~ 3.3V Enable/Disable 4-SMD, No Lead; Manufacturer #1: Microchip Technology; Tolerance: ±50ppm; GRAMS Lib Spec: 2.8; Magnetic Material: Unknown; Polarized: Yes; Value: 24MHz; Voltage Rating: 1.8V ~ 3.3V; Current Rating: *; Power Max: *; HelpURL: https://ww1.microchip.com/downloads/en/DeviceDoc/20005624B.pdf; CreatedBy/Date: Hubert Dube - 15/02/2021; VerifiedBy: PA + Hubert Dube - 19/03/2021; Temperature: -40°C ~ +85°C; Package: 4-SMD, No Lead; Manufacturer #2: *; Note: *; Assembly Type: SMD; Part Number #2: *; Part Number #1: DSC6101CI1A-024.0000; Cryo: UNKNOWN; Supplier 1: Digi-Key; Supplier Part Number 1: DSC6101CI1A-024.0000-ND
footprint OSC_DSC6101CI1A-024.0000 (4-SMD, No Lead)
pins: 1 Standby, 2 GND, 3 OUTPUT, 4 VDD

## OSC_O 24,0-JO32-B-1V3-1-T1-LF
designator X?, comment O 24,0-JO32-B-1V3-1-T1-LF
OSC - 24MHz XO (Standard) LVCMOS Oscillator 1.8V ~ 3.3V Enable/Disable 4-SMD, No Lead; Manufacturer #1: Jauch Quartz; Tolerance: ±50ppm; Current Rating: 4mA; Power Max: 13mW; GRAMS Lib Spec: 2.8c; Magnetic Material: Unknown; Polarized: Yes; Value: 24MHz; Voltage Rating: 1.8V ~ 3.3V; HelpURL: https://www.jauch.com/downloadfile/5ef1edcfb8e2f73163c8ce8009ef659d1/jo32-1.8-3.3v.pdf; CreatedBy/Date: Louis-Daniel Gaulin / 13-04-2021; VerifiedBy: Philippe Arsenault/2021-04-14; Temperature: -40°C ~ +85°C; Package: 4-SMD, No Lead; Manufacturer #2: *; Note: *; Assembly Type: SMD; Part Number #2: *; Part Number #1: O 24,0-JO32-B-1V3-1-T1-LF; Cryo: UNKNOWN; Supplier 1: Digi-Key; Supplier Part Number 1: 1908-O240-JO32-B-1V3-1-T1-LFCT-ND
footprint OSC_O 24,0-JO32-B-1V3-1-T1-LF (4-SMD, No Lead)
pins: 1 EN, 2 GND, 3 OUTPUT, 4 VDC

## OSC_O 38,40-JT21G-E-M-3,3-LF
designator Y?, comment O 38,40-JT21G-E-M-3,3-LF
OSC -  TCXO Clipped Sine Wave Oscillator 3.3V 38.4MHz - 4-SMD; Manufacturer #1: Jauch Quartz; Tolerance: ±2 ppm; Voltage Rating: 3.14V~3.46V; Current Rating: 2mA; Power Max: 7mW; GRAMS Lib Spec: 2.8; Magnetic Material: Unknown; Polarized: Yes; Value: 38.4 MHz; HelpURL: https://www.jauch.com/downloadfile/5ea1ac91e1fcc808473bf53821b4b903d/jt21g_200519_online.pdf; CreatedBy/Date: Louis-Daniel Gaulin / 30-04-2021; VerifiedBy: Philippe Arsenault/2021-04-30; Temperature: -30°C ~ 85°C; Package: SMD-4; Assembly Type: SMD; Part Number #1: O 38,40-JT21G-E-M-3,3-LF; Supplier 1: Digi-Key; Supplier Part Number 1: 1908-O38,40-JT21G-E-M-3,3-LFCT-ND
footprint OSC_O 38,40-JT21G-E-M-3,3-LF
pins: 1 GND, 2 GND, 3 OUT, 4 VDD